# EAGLE library part AT93C46B (library eeprom-at93c46b)
AT93C46B - Atmel EEPROM in PDIP-8 package.
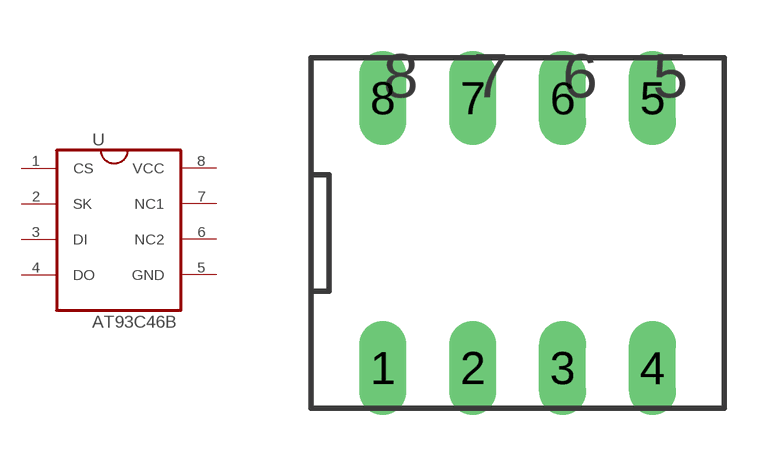
[diagram p0: symbol with the pads of PDIP-8; footprint PDIP-8]

Designator prefix -

## AT93C46B  [PDIP-8]
1  CS  in
2  SK  in
3  DI  in
4  DO  out
5  GND  pwr
6  NC2  nc
7  NC1  nc
8  VCC  pwr

## Footprint PDIP-8 (pad centres in mm)
drill 0.813 long: 1 -3.81,-3.81; 2 -1.27,-3.81; 3 1.27,-3.81; 4 3.81,-3.81; 5 3.81,3.81; 6 1.27,3.81; 7 -1.27,3.81; 8 -3.81,3.81